# Altium schematic symbol library SMP4-SRGY.Schlib: 1 symbol
Pins are listed as number, name and electrical type; pins without a type are passive.

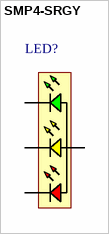
[diagram p0: symbol SMP4-SRGY]

## SMP4-SRGY
designator LED?, comment LED_BLU_RED  (value not drawn)
pins: 1 K, 2 K, 3 K, 4 A
1 alternate drawing of the same symbol